# Altium schematic symbol library PDTA123JU.Schlib: 1 symbol
Pins are listed as number, name and electrical type; pins without a type are passive.

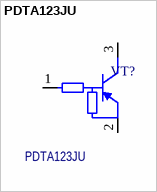
[diagram p0: symbol PDTA123JU]

## PDTA123JU
designator VT?
Digital Transistor (resistor-equipped transistors), R1=R2=2k, PNP Transistor, 3-Pin SC-70; Назначение: Resistor-equipped transistors, R1=R2=2k, PNP Transistor, 3-Pin SC-70; Потребление, Вт: 0,001; ComponentLink1Description: Datasheet; ComponentLink1URL: https://assets.nexperia.com/documents/data-sheet/PDTC114E_SER.pdf; Наименование: PDTA123JU
footprint SOT-323 (SC-70) (SOT23, 3-Leads, Body 2x1.25mm, Pitch 0.65mm)
footprint SOT-23
pins: 1 B, 2 E, 3 C